# Altium footprint library BNC-STD-Vertical_TH.PcbLib: 1 footprints
Each footprint in its own frame and in the unit in brackets; x right, y up, seen from the top. Pads: shape width x height; smd on the part's side, far side on the other; paste and mask are expansions set on the pad; w line width, h text height; cw(c..) or ccw(c..) is an arc to the next point about the centre after c.
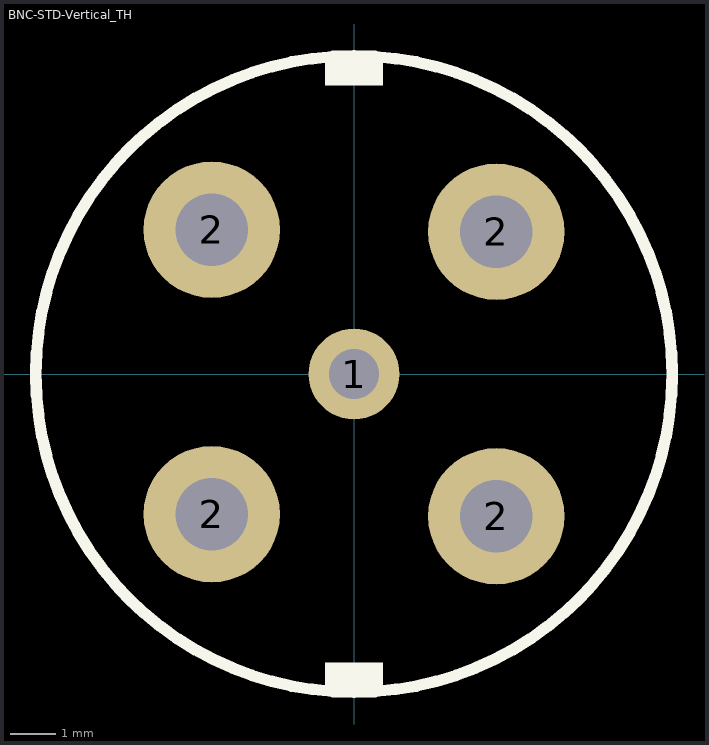
[diagram p0: the footprint, top view; thin cyan lines are the x and y axes]

## BNC-STD-Vertical_TH [mm] "Vertical thru hole BNC"
height 14
pads (5):
  round 2 hole 1.1: 1(0,0)
  round 3 hole 1.6: 2(-3.13,-3.085) 2(-3.13,3.175) 2(3.13,-3.13) 2(3.13,3.13)
Top Overlay:
  circle w0.254: c0,0 r7
  rectangle: -0.635,-6.985 0.635,-6.35
  rectangle: -0.635,6.35 0.635,6.985
3D body: height 13.7, standoff -4.9, extent -5.5,-5.51 5.5,5.51